# Altium footprint library Con CardEdge.PcbLib: 10 footprints
Each footprint in its own frame and in the unit in brackets; x right, y up, seen from the top. Pads: shape width x height; smd on the part's side, far side on the other; paste and mask are expansions set on the pad; w line width, h text height; cw(c..) or ccw(c..) is an arc to the next point about the centre after c.
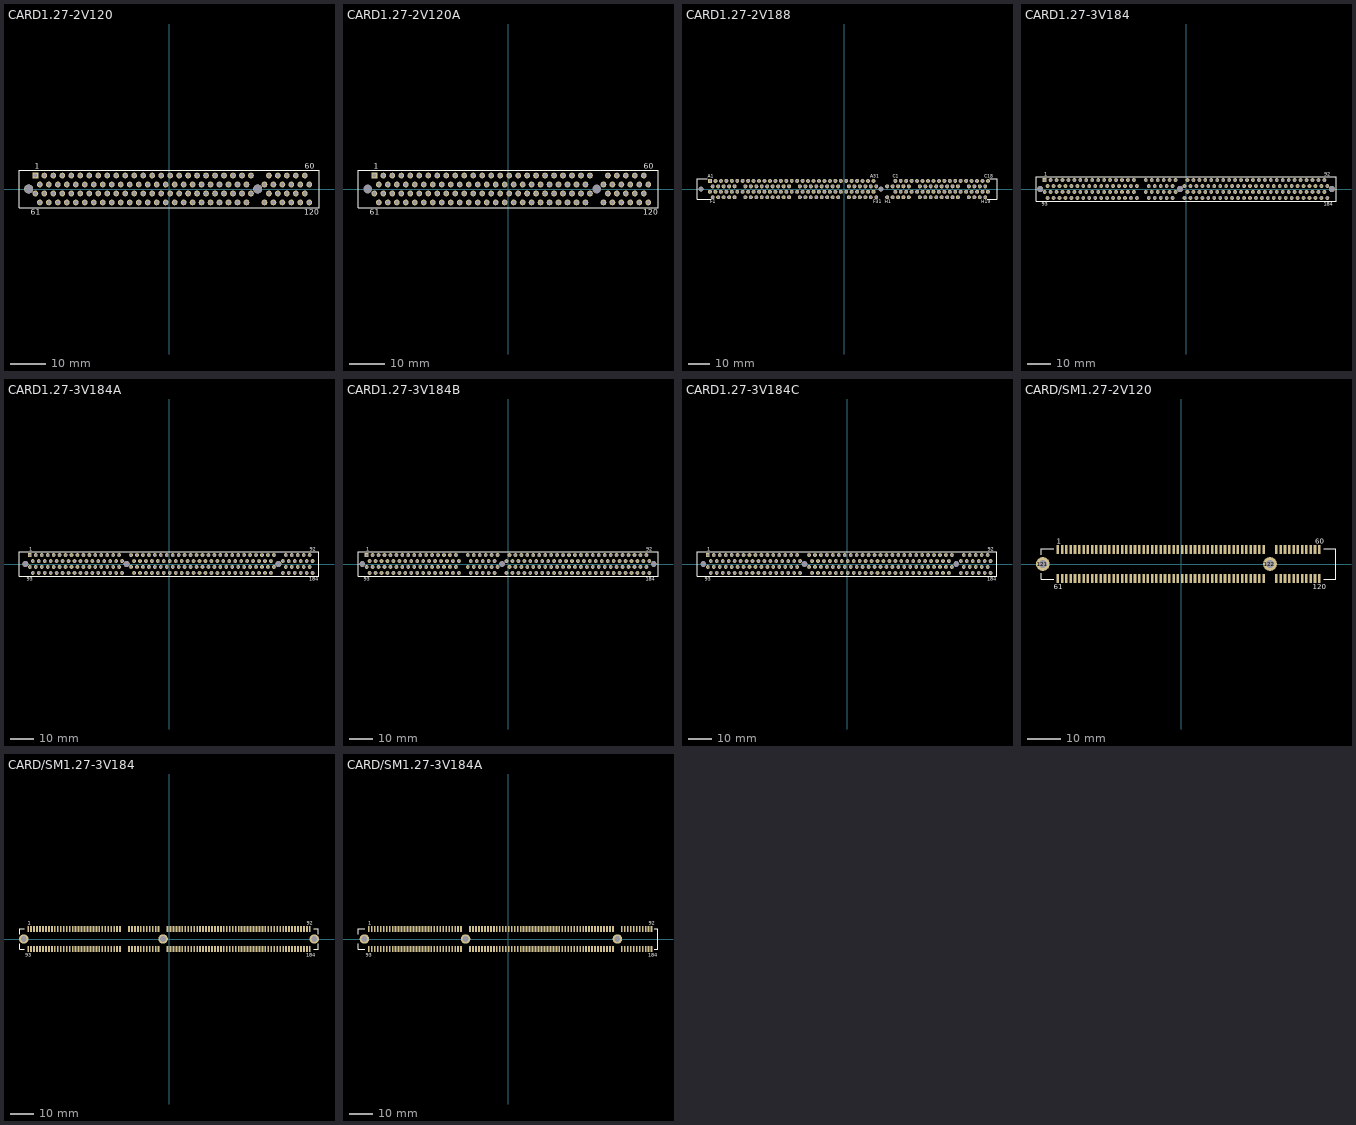
[diagram p0: the footprints below, top view; thin cyan lines are the x and y axes]

## CARD1.27-2V120 [mm] "Connector; Card Edge .050 Series PCI; 2x60 Position; 32-Bit Bus"
height 15.74
pads (122):
  rect 1.62x1.62 hole 1.02: 1(-37.782,3.81)
  round 1.62 hole 1.02: 2(-36.512,1.27) 3(-35.242,3.81) 4(-33.972,1.27) 5(-32.703,3.81) 6(-31.432,1.27) 7(-30.162,3.81) 8(-28.892,1.27) 9(-27.622,3.81) 10(-26.352,1.27) 11(-25.082,3.81) 12(-23.812,1.27) 13(-22.543,3.81) 14(-21.273,1.27) 15(-20.002,3.81) 16(-18.732,1.27) 17(-17.462,3.81) 18(-16.192,1.27) 19(-14.922,3.81) 20(-13.652,1.27) 21(-12.383,3.81) 22(-11.112,1.27) 23(-9.842,3.81) 24(-8.572,1.27) 25(-7.302,3.81) 26(-6.032,1.27) 27(-4.763,3.81) 28(-3.492,1.27) 29(-2.222,3.81) 30(-0.953,1.27) 31(0.318,3.81) 32(1.587,1.27) 33(2.857,3.81) 34(4.127,1.27) 35(5.397,3.81) 36(6.667,1.27) 37(7.938,3.81) 38(9.207,1.27) 39(10.477,3.81) 40(11.747,1.27) 41(13.018,3.81) 42(14.287,1.27) 43(15.557,3.81) 44(16.828,1.27) 45(18.098,3.81) 46(19.367,1.27) 47(20.637,3.81) 48(21.907,1.27) 49(23.177,3.81) 50(26.987,1.27) 51(28.258,3.81) 52(29.527,1.27) 53(30.797,3.81) 54(32.067,1.27) 55(33.337,3.81) 56(34.608,1.27) 57(35.877,3.81) 58(37.148,1.27) 59(38.417,3.81) 60(39.688,1.27) 61(-37.782,-1.27) 62(-36.512,-3.81) 63(-35.242,-1.27) 64(-33.972,-3.81) 65(-32.703,-1.27) 66(-31.432,-3.81) 67(-30.162,-1.27) 68(-28.892,-3.81) 69(-27.622,-1.27) 70(-26.352,-3.81) 71(-25.082,-1.27) 72(-23.812,-3.81) 73(-22.543,-1.27) 74(-21.273,-3.81) 75(-20.002,-1.27) 76(-18.732,-3.81) 77(-17.462,-1.27) 78(-16.192,-3.81) 79(-14.922,-1.27) 80(-13.652,-3.81) 81(-12.383,-1.27) 82(-11.112,-3.81) 83(-9.842,-1.27) 84(-8.572,-3.81) 85(-7.302,-1.27) 86(-6.032,-3.81) 87(-4.763,-1.27) 88(-3.492,-3.81) 89(-2.222,-1.27) 90(-0.953,-3.81) 91(0.318,-1.27) 92(1.587,-3.81) 93(2.857,-1.27) 94(4.127,-3.81) 95(5.397,-1.27) 96(6.667,-3.81) 97(7.938,-1.27) 98(9.207,-3.81) 99(10.477,-1.27) 100(11.747,-3.81) 101(13.018,-1.27) 102(14.287,-3.81) 103(15.557,-1.27) 104(16.828,-3.81) 105(18.098,-1.27) 106(19.367,-3.81) 107(20.637,-1.27) 108(21.907,-3.81) 109(23.177,-1.27) 110(26.987,-3.81) 111(28.258,-1.27) 112(29.527,-3.81) 113(30.797,-1.27) 114(32.067,-3.81) 115(33.337,-1.27) 116(34.608,-3.81) 117(35.877,-1.27) 118(37.148,-3.81) 119(38.417,-1.27) 120(39.688,-3.81)
  round 2.55 hole 2.44: 121(-39.688,0) 122(25.082,0)
Top Overlay:
  lines w0.2: -42.42,-5.26 42.42,-5.26 42.42,5.26 -42.42,5.26 -42.42,-5.26
  text "120" at 38.188,-7.235 h1.5
  text "60" at 38.437,5.735 h1.5
  text "1" at -38.032,5.735 h1.5
  text "61" at -39.033,-7.235 h1.5

## CARD1.27-2V120A [mm] "Connector; Card Edge .050 Series PCI; 2x60 Position; 32-Bit Bus"
height 15.48
pads (122):
  rect 1.62x1.62 hole 1.02: 1(-37.782,3.81)
  round 1.62 hole 1.02: 2(-36.512,1.27) 3(-35.242,3.81) 4(-33.972,1.27) 5(-32.703,3.81) 6(-31.432,1.27) 7(-30.162,3.81) 8(-28.892,1.27) 9(-27.622,3.81) 10(-26.352,1.27) 11(-25.082,3.81) 12(-23.812,1.27) 13(-22.543,3.81) 14(-21.273,1.27) 15(-20.002,3.81) 16(-18.732,1.27) 17(-17.462,3.81) 18(-16.192,1.27) 19(-14.922,3.81) 20(-13.652,1.27) 21(-12.383,3.81) 22(-11.112,1.27) 23(-9.842,3.81) 24(-8.572,1.27) 25(-7.302,3.81) 26(-6.032,1.27) 27(-4.763,3.81) 28(-3.492,1.27) 29(-2.222,3.81) 30(-0.953,1.27) 31(0.318,3.81) 32(1.587,1.27) 33(2.857,3.81) 34(4.127,1.27) 35(5.397,3.81) 36(6.667,1.27) 37(7.938,3.81) 38(9.207,1.27) 39(10.477,3.81) 40(11.747,1.27) 41(13.018,3.81) 42(14.287,1.27) 43(15.557,3.81) 44(16.828,1.27) 45(18.098,3.81) 46(19.367,1.27) 47(20.637,3.81) 48(21.907,1.27) 49(23.177,3.81) 50(26.987,1.27) 51(28.258,3.81) 52(29.527,1.27) 53(30.797,3.81) 54(32.067,1.27) 55(33.337,3.81) 56(34.608,1.27) 57(35.877,3.81) 58(37.148,1.27) 59(38.417,3.81) 60(39.688,1.27) 61(-37.782,-1.27) 62(-36.512,-3.81) 63(-35.242,-1.27) 64(-33.972,-3.81) 65(-32.703,-1.27) 66(-31.432,-3.81) 67(-30.162,-1.27) 68(-28.892,-3.81) 69(-27.622,-1.27) 70(-26.352,-3.81) 71(-25.082,-1.27) 72(-23.812,-3.81) 73(-22.543,-1.27) 74(-21.273,-3.81) 75(-20.002,-1.27) 76(-18.732,-3.81) 77(-17.462,-1.27) 78(-16.192,-3.81) 79(-14.922,-1.27) 80(-13.652,-3.81) 81(-12.383,-1.27) 82(-11.112,-3.81) 83(-9.842,-1.27) 84(-8.572,-3.81) 85(-7.302,-1.27) 86(-6.032,-3.81) 87(-4.763,-1.27) 88(-3.492,-3.81) 89(-2.222,-1.27) 90(-0.953,-3.81) 91(0.318,-1.27) 92(1.587,-3.81) 93(2.857,-1.27) 94(4.127,-3.81) 95(5.397,-1.27) 96(6.667,-3.81) 97(7.938,-1.27) 98(9.207,-3.81) 99(10.477,-1.27) 100(11.747,-3.81) 101(13.018,-1.27) 102(14.287,-3.81) 103(15.557,-1.27) 104(16.828,-3.81) 105(18.098,-1.27) 106(19.367,-3.81) 107(20.637,-1.27) 108(21.907,-3.81) 109(23.177,-1.27) 110(26.987,-3.81) 111(28.258,-1.27) 112(29.527,-3.81) 113(30.797,-1.27) 114(32.067,-3.81) 115(33.337,-1.27) 116(34.608,-3.81) 117(35.877,-1.27) 118(37.148,-3.81) 119(38.417,-1.27) 120(39.688,-3.81)
  round 2.14 hole 2.44: 121(-39.688,0) 122(25.082,0)
Top Overlay:
  lines w0.2: -42.42,-5.26 -42.42,5.26 42.42,5.26 42.42,-5.26 -42.42,-5.26
  text "61" at -39.033,-7.235 h1.5
  text "1" at -38.032,5.735 h1.5
  text "60" at 38.437,5.735 h1.5
  text "120" at 38.188,-7.235 h1.5

## CARD1.27-2V188 [mm] "Connector; EISA, Thru-Hole; 188 Position; Vertical; Pitch 1.27 mm"
height 15.49
pads (190):
  rect 1.85x1.85 hole 1.1: A1(-62.685,3.81)
  round 1.85 hole 1.1: A2(-60.145,3.81) A3(-57.605,3.81) A4(-55.065,3.81) A5(-52.525,3.81) A6(-49.985,3.81) A7(-47.445,3.81) A8(-44.905,3.81) A9(-42.365,3.81) A10(-39.825,3.81) A11(-37.285,3.81) A12(-34.745,3.81) A13(-32.205,3.81) A14(-29.665,3.81) A15(-27.125,3.81) A16(-24.585,3.81) A17(-22.045,3.81) A18(-19.505,3.81) A19(-16.965,3.81) A20(-14.425,3.81) A21(-11.885,3.81) A22(-9.345,3.81) A23(-6.805,3.81) A24(-4.265,3.81) A25(-1.725,3.81) A26(0.815,3.81) A27(3.355,3.81) A28(5.895,3.81) A29(8.435,3.81) A30(10.975,3.81) A31(13.515,3.81) B1(-62.685,-1.27) B2(-60.145,-1.27) B3(-57.605,-1.27) B4(-55.065,-1.27) B5(-52.525,-1.27) B6(-49.985,-1.27) B7(-47.445,-1.27) B8(-44.905,-1.27) B9(-42.365,-1.27) B10(-39.825,-1.27) B11(-37.285,-1.27) B12(-34.745,-1.27) B13(-32.205,-1.27) B14(-29.665,-1.27) B15(-27.125,-1.27) B16(-24.585,-1.27) B17(-22.045,-1.27) B18(-19.505,-1.27) B19(-16.965,-1.27) B20(-14.425,-1.27) B21(-11.885,-1.27) B22(-9.345,-1.27) B23(-6.805,-1.27) B24(-4.265,-1.27) B25(-1.725,-1.27) B26(0.815,-1.27) B27(3.355,-1.27) B28(5.895,-1.27) B29(8.435,-1.27) B30(10.975,-1.27) B31(13.515,-1.27) C1(23.675,3.81) C2(26.215,3.81) C3(28.755,3.81) C4(31.295,3.81) C5(33.835,3.81) C6(36.375,3.81) C7(38.915,3.81) C8(41.455,3.81) C9(43.995,3.81) C10(46.535,3.81) C11(49.075,3.81) C12(51.615,3.81) C13(54.155,3.81) C14(56.695,3.81) C15(59.235,3.81) C16(61.775,3.81) C17(64.315,3.81) C18(66.855,3.81) D1(23.675,-1.27) D2(26.215,-1.27) D3(28.755,-1.27) D4(31.295,-1.27) D5(33.835,-1.27) D6(36.375,-1.27) D7(38.915,-1.27) D8(41.455,-1.27) D9(43.995,-1.27) D10(46.535,-1.27) D11(49.075,-1.27) D12(51.615,-1.27) D13(54.155,-1.27) D14(56.695,-1.27) D15(59.235,-1.27) D16(61.775,-1.27) D17(64.315,-1.27) D18(66.855,-1.27) E1(-61.415,1.27) E2(-58.875,1.27) E3(-56.335,1.27) E4(-53.795,1.27) E5(-51.255,1.27) E7(-46.175,1.27) E8(-43.635,1.27) E9(-41.095,1.27) E10(-38.555,1.27) E11(-36.015,1.27) E12(-33.475,1.27) E13(-30.935,1.27) E14(-28.395,1.27) E15(-25.855,1.27) E17(-20.775,1.27) E18(-18.235,1.27) E19(-15.695,1.27) E20(-13.155,1.27) E21(-10.615,1.27) E22(-8.075,1.27) E23(-5.535,1.27) E24(-2.995,1.27) E26(2.085,1.27) E27(4.625,1.27) E28(7.165,1.27) E29(9.705,1.27) E30(12.245,1.27) E31(14.785,1.27) F1(-61.415,-3.81) F2(-58.875,-3.81) F3(-56.335,-3.81) F4(-53.795,-3.81) F5(-51.255,-3.81) F7(-46.175,-3.81) F8(-43.635,-3.81) F9(-41.095,-3.81) F10(-38.555,-3.81) F11(-36.015,-3.81) F12(-33.475,-3.81) F13(-30.935,-3.81) F14(-28.395,-3.81) F15(-25.855,-3.81) F17(-20.775,-3.81) F18(-18.235,-3.81) F19(-15.695,-3.81) F20(-13.155,-3.81) F21(-10.615,-3.81) F22(-8.075,-3.81) F23(-5.535,-3.81) F24(-2.995,-3.81) F26(2.085,-3.81) F27(4.625,-3.81) F28(7.165,-3.81) F29(9.705,-3.81) F30(12.245,-3.81) F31(14.785,-3.81) G1(19.865,1.27) G2(22.405,1.27) G3(24.945,1.27) G4(27.485,1.27) G5(30.025,1.27) G7(35.105,1.27) G8(37.645,1.27) G9(40.185,1.27) G10(42.725,1.27) G11(45.265,1.27) G12(47.805,1.27) G13(50.345,1.27) G14(52.885,1.27) G16(57.965,1.27) G17(60.505,1.27) G18(63.045,1.27) G19(65.585,1.27) H1(19.865,-3.81) H2(22.405,-3.81) H3(24.945,-3.81) H4(27.485,-3.81) H5(30.025,-3.81) H7(35.105,-3.81) H8(37.645,-3.81) H9(40.185,-3.81) H10(42.725,-3.81) H11(45.265,-3.81) H12(47.805,-3.81) H13(50.345,-3.81) H14(52.885,-3.81) H16(57.965,-3.81) H17(60.505,-3.81) H18(63.045,-3.81) H19(65.585,-3.81)
  round 2.14 hole 2.45: MH1(-66.855,0) MH2(16.965,0)
Top Overlay:
  lines w0.2: -64.06,4.76 -68.735,4.76 -68.735,-4.76 -62.345,-4.76 ; 66.515,-4.76 71.065,-4.76 71.065,4.76 67.785,4.76
  text "A1" at -63.785,5.26 h1.5
  text "A31" at 12.015,5.26 h1.5
  text "F31" at 13.285,-6.71 h1.5
  text "F1" at -62.515,-6.71 h1.5
  text "H1" at 18.765,-6.71 h1.5
  text "C1" at 22.575,5.26 h1.5
  text "H19" at 63.835,-6.71 h1.5
  text "C18" at 65.105,5.26 h1.5

## CARD1.27-3V184 [mm] "Connector; Card Edge .050 Series PCI; 2x92 Position; 64-Bit Bus"
height 15.74
pads (187):
  rect 1.62x1.62 hole 1.02: 1(-60.325,3.81)
  round 1.62 hole 1.02: 2(-59.055,1.27) 3(-57.785,3.81) 4(-56.515,1.27) 5(-55.245,3.81) 6(-53.975,1.27) 7(-52.705,3.81) 8(-51.435,1.27) 9(-50.165,3.81) 10(-48.895,1.27) 11(-47.625,3.81) 12(-46.355,1.27) 13(-45.085,3.81) 14(-43.815,1.27) 15(-42.545,3.81) 16(-41.275,1.27) 17(-40.005,3.81) 18(-38.735,1.27) 19(-37.465,3.81) 20(-36.195,1.27) 21(-34.925,3.81) 22(-33.655,1.27) 23(-32.385,3.81) 24(-31.115,1.27) 25(-29.845,3.81) 26(-28.575,1.27) 27(-27.305,3.81) 28(-26.035,1.27) 29(-24.765,3.81) 30(-23.495,1.27) 31(-22.225,3.81) 32(-20.955,1.27) 33(-17.145,3.81) 34(-15.875,1.27) 35(-14.605,3.81) 36(-13.335,1.27) 37(-12.065,3.81) 38(-10.795,1.27) 39(-9.525,3.81) 40(-8.255,1.27) 41(-6.985,3.81) 42(-5.715,1.27) 43(-4.445,3.81) 44(-0.635,1.27) 45(0.635,3.81) 46(1.905,1.27) 47(3.175,3.81) 48(4.445,1.27) 49(5.715,3.81) 50(6.985,1.27) 51(8.255,3.81) 52(9.525,1.27) 53(10.795,3.81) 54(12.065,1.27) 55(13.335,3.81) 56(14.605,1.27) 57(15.875,3.81) 58(17.145,1.27) 59(18.415,3.81) 60(19.685,1.27) 61(20.955,3.81) 62(22.225,1.27) 63(23.495,3.81) 64(24.765,1.27) 65(26.035,3.81) 66(27.305,1.27) 67(28.575,3.81) 68(29.845,1.27) 69(31.115,3.81) 70(32.385,1.27) 71(33.655,3.81) 72(34.925,1.27) 73(36.195,3.81) 74(37.465,1.27) 75(38.735,3.81) 76(40.005,1.27) 77(41.275,3.81) 78(42.545,1.27) 79(43.815,3.81) 80(45.085,1.27) 81(46.355,3.81) 82(47.625,1.27) 83(48.895,3.81) 84(50.165,1.27) 85(51.435,3.81) 86(52.705,1.27) 87(53.975,3.81) 88(55.245,1.27) 89(56.515,3.81) 90(57.785,1.27) 91(59.055,3.81) 92(60.325,1.27) 93(-60.325,-1.27) 94(-59.055,-3.81) 95(-57.785,-1.27) 96(-56.515,-3.81) 97(-55.245,-1.27) 98(-53.975,-3.81) 99(-52.705,-1.27) 100(-51.435,-3.81) 101(-50.165,-1.27) 102(-48.895,-3.81) 103(-47.625,-1.27) 104(-46.355,-3.81) 105(-45.085,-1.27) 106(-43.815,-3.81) 107(-42.545,-1.27) 108(-41.275,-3.81) 109(-40.005,-1.27) 110(-38.735,-3.81) 111(-37.465,-1.27) 112(-36.195,-3.81) 113(-34.925,-1.27) 114(-33.655,-3.81) 115(-32.385,-1.27) 116(-31.115,-3.81) 117(-29.845,-1.27) 118(-28.575,-3.81) 119(-27.305,-1.27) 120(-26.035,-3.81) 121(-24.765,-1.27) 122(-23.495,-3.81) 123(-22.225,-1.27) 124(-20.955,-3.81) 125(-17.145,-1.27) 126(-15.875,-3.81) 127(-14.605,-1.27) 128(-13.335,-3.81) 129(-12.065,-1.27) 130(-10.795,-3.81) 131(-9.525,-1.27) 132(-8.255,-3.81) 133(-6.985,-1.27) 134(-5.715,-3.81) 135(-4.445,-1.27) 136(-0.635,-3.81) 137(0.635,-1.27) 138(1.905,-3.81) 139(3.175,-1.27) 140(4.445,-3.81) 141(5.715,-1.27) 142(6.985,-3.81) 143(8.255,-1.27) 144(9.525,-3.81) 145(10.795,-1.27) 146(12.065,-3.81) 147(13.335,-1.27) 148(14.605,-3.81) 149(15.875,-1.27) 150(17.145,-3.81) 151(18.415,-1.27) 152(19.685,-3.81) 153(20.955,-1.27) 154(22.225,-3.81) 155(23.495,-1.27) 156(24.765,-3.81) 157(26.035,-1.27) 158(27.305,-3.81) 159(28.575,-1.27) 160(29.845,-3.81) 161(31.115,-1.27) 162(32.385,-3.81) 163(33.655,-1.27) 164(34.925,-3.81) 165(36.195,-1.27) 166(37.465,-3.81) 167(38.735,-1.27) 168(40.005,-3.81) 169(41.275,-1.27) 170(42.545,-3.81) 171(43.815,-1.27) 172(45.085,-3.81) 173(46.355,-1.27) 174(47.625,-3.81) 175(48.895,-1.27) 176(50.165,-3.81) 177(51.435,-1.27) 178(52.705,-3.81) 179(53.975,-1.27) 180(55.245,-3.81) 181(56.515,-1.27) 182(57.785,-3.81) 183(59.055,-1.27) 184(60.325,-3.81)
  round 2.56 hole 2.44: 185(-62.23,0) 186(-2.54,0) 187(62.23,0)
Top Overlay:
  lines w0.2: -64.01,-5.26 -64.01,5.26 64.01,5.26 64.01,-5.26 -64.01,-5.26
  text "1" at -60.575,5.735 h1.5
  text "93" at -61.575,-7.235 h1.5
  text "184" at 58.825,-7.235 h1.5
  text "92" at 59.075,5.735 h1.5

## CARD1.27-3V184A [mm] "Connector; Card Edge .050 Series PCI; 2x92 Position; 64-Bit Bus"
height 15.74
pads (187):
  rect 1.62x1.62 hole 1.02: 1(-59.372,3.81)
  round 1.62 hole 1.02: 2(-58.102,1.27) 3(-56.832,3.81) 4(-55.562,1.27) 5(-54.292,3.81) 6(-53.023,1.27) 7(-51.752,3.81) 8(-50.482,1.27) 9(-49.212,3.81) 10(-47.942,1.27) 11(-46.672,3.81) 12(-45.402,1.27) 13(-44.133,3.81) 14(-42.862,1.27) 15(-41.593,3.81) 16(-40.322,1.27) 17(-39.052,3.81) 18(-37.782,1.27) 19(-36.512,3.81) 20(-35.242,1.27) 21(-33.972,3.81) 22(-32.703,1.27) 23(-31.432,3.81) 24(-30.162,1.27) 25(-28.892,3.81) 26(-27.622,1.27) 27(-26.352,3.81) 28(-25.082,1.27) 29(-23.812,3.81) 30(-22.543,1.27) 31(-21.273,3.81) 32(-20.002,1.27) 33(-16.192,3.81) 34(-14.922,1.27) 35(-13.652,3.81) 36(-12.383,1.27) 37(-11.112,3.81) 38(-9.842,1.27) 39(-8.572,3.81) 40(-7.302,1.27) 41(-6.032,3.81) 42(-4.763,1.27) 43(-3.492,3.81) 44(-2.222,1.27) 45(-0.953,3.81) 46(0.318,1.27) 47(1.587,3.81) 48(2.857,1.27) 49(4.127,3.81) 50(5.397,1.27) 51(6.667,3.81) 52(7.938,1.27) 53(9.207,3.81) 54(10.477,1.27) 55(11.747,3.81) 56(13.018,1.27) 57(14.287,3.81) 58(15.557,1.27) 59(16.828,3.81) 60(18.098,1.27) 61(19.367,3.81) 62(20.637,1.27) 63(21.907,3.81) 64(23.177,1.27) 65(24.447,3.81) 66(25.717,1.27) 67(26.987,3.81) 68(28.258,1.27) 69(29.527,3.81) 70(30.797,1.27) 71(32.067,3.81) 72(33.337,1.27) 73(34.608,3.81) 74(35.877,1.27) 75(37.148,3.81) 76(38.417,1.27) 77(39.688,3.81) 78(40.957,1.27) 79(42.227,3.81) 80(43.497,1.27) 81(44.767,3.81) 82(48.578,1.27) 83(49.847,3.81) 84(51.117,1.27) 85(52.387,3.81) 86(53.657,1.27) 87(54.927,3.81) 88(56.197,1.27) 89(57.468,3.81) 90(58.737,1.27) 91(60.008,3.81) 92(61.277,1.27) 93(-59.372,-1.27) 94(-58.102,-3.81) 95(-56.832,-1.27) 96(-55.562,-3.81) 97(-54.292,-1.27) 98(-53.023,-3.81) 99(-51.752,-1.27) 100(-50.482,-3.81) 101(-49.212,-1.27) 102(-47.942,-3.81) 103(-46.672,-1.27) 104(-45.402,-3.81) 105(-44.133,-1.27) 106(-42.862,-3.81) 107(-41.593,-1.27) 108(-40.322,-3.81) 109(-39.052,-1.27) 110(-37.782,-3.81) 111(-36.512,-1.27) 112(-35.242,-3.81) 113(-33.972,-1.27) 114(-32.703,-3.81) 115(-31.432,-1.27) 116(-30.162,-3.81) 117(-28.892,-1.27) 118(-27.622,-3.81) 119(-26.352,-1.27) 120(-25.082,-3.81) 121(-23.812,-1.27) 122(-22.543,-3.81) 123(-21.273,-1.27) 124(-20.002,-3.81) 125(-16.192,-1.27) 126(-14.922,-3.81) 127(-13.652,-1.27) 128(-12.383,-3.81) 129(-11.112,-1.27) 130(-9.842,-3.81) 131(-8.572,-1.27) 132(-7.302,-3.81) 133(-6.032,-1.27) 134(-4.763,-3.81) 135(-3.492,-1.27) 136(-2.222,-3.81) 137(-0.953,-1.27) 138(0.318,-3.81) 139(1.587,-1.27) 140(2.857,-3.81) 141(4.127,-1.27) 142(5.397,-3.81) 143(6.667,-1.27) 144(7.938,-3.81) 145(9.207,-1.27) 146(10.477,-3.81) 147(11.747,-1.27) 148(13.018,-3.81) 149(14.287,-1.27) 150(15.557,-3.81) 151(16.828,-1.27) 152(18.098,-3.81) 153(19.367,-1.27) 154(20.637,-3.81) 155(21.907,-1.27) 156(23.177,-3.81) 157(24.447,-1.27) 158(25.717,-3.81) 159(26.987,-1.27) 160(28.258,-3.81) 161(29.527,-1.27) 162(30.797,-3.81) 163(32.067,-1.27) 164(33.337,-3.81) 165(34.608,-1.27) 166(35.877,-3.81) 167(37.148,-1.27) 168(38.417,-3.81) 169(39.688,-1.27) 170(40.957,-3.81) 171(42.227,-1.27) 172(43.497,-3.81) 173(44.767,-1.27) 174(48.578,-3.81) 175(49.847,-1.27) 176(51.117,-3.81) 177(52.387,-1.27) 178(53.657,-3.81) 179(54.927,-1.27) 180(56.197,-3.81) 181(57.468,-1.27) 182(58.737,-3.81) 183(60.008,-1.27) 184(61.277,-3.81)
  round 2.56 hole 2.44: 185(-61.277,0) 186(-18.098,0) 187(46.672,0)
Top Overlay:
  lines w0.2: -64,-5.26 -64,5.26 64,5.26 64,-5.26 -64,-5.26
  text "92" at 60.027,5.735 h1.5
  text "184" at 59.778,-7.235 h1.5
  text "93" at -60.623,-7.235 h1.5
  text "1" at -59.622,5.735 h1.5

## CARD1.27-3V184B [mm] "Connector; Card Edge .050 Series PCI; 2x92 Position; 64-Bit Bus"
height 15.74
pads (187):
  rect 1.62x1.62 hole 1.02: 1(-60.325,3.81)
  round 1.62 hole 1.02: 2(-59.055,1.27) 3(-57.785,3.81) 4(-56.515,1.27) 5(-55.245,3.81) 6(-53.975,1.27) 7(-52.705,3.81) 8(-51.435,1.27) 9(-50.165,3.81) 10(-48.895,1.27) 11(-47.625,3.81) 12(-46.355,1.27) 13(-45.085,3.81) 14(-43.815,1.27) 15(-42.545,3.81) 16(-41.275,1.27) 17(-40.005,3.81) 18(-38.735,1.27) 19(-37.465,3.81) 20(-36.195,1.27) 21(-34.925,3.81) 22(-33.655,1.27) 23(-32.385,3.81) 24(-31.115,1.27) 25(-29.845,3.81) 26(-28.575,1.27) 27(-27.305,3.81) 28(-26.035,1.27) 29(-24.765,3.81) 30(-23.495,1.27) 31(-22.225,3.81) 32(-20.955,1.27) 33(-17.145,3.81) 34(-15.875,1.27) 35(-14.605,3.81) 36(-13.335,1.27) 37(-12.065,3.81) 38(-10.795,1.27) 39(-9.525,3.81) 40(-8.255,1.27) 41(-6.985,3.81) 42(-5.715,1.27) 43(-4.445,3.81) 44(-0.635,1.27) 45(0.635,3.81) 46(1.905,1.27) 47(3.175,3.81) 48(4.445,1.27) 49(5.715,3.81) 50(6.985,1.27) 51(8.255,3.81) 52(9.525,1.27) 53(10.795,3.81) 54(12.065,1.27) 55(13.335,3.81) 56(14.605,1.27) 57(15.875,3.81) 58(17.145,1.27) 59(18.415,3.81) 60(19.685,1.27) 61(20.955,3.81) 62(22.225,1.27) 63(23.495,3.81) 64(24.765,1.27) 65(26.035,3.81) 66(27.305,1.27) 67(28.575,3.81) 68(29.845,1.27) 69(31.115,3.81) 70(32.385,1.27) 71(33.655,3.81) 72(34.925,1.27) 73(36.195,3.81) 74(37.465,1.27) 75(38.735,3.81) 76(40.005,1.27) 77(41.275,3.81) 78(42.545,1.27) 79(43.815,3.81) 80(45.085,1.27) 81(46.355,3.81) 82(47.625,1.27) 83(48.895,3.81) 84(50.165,1.27) 85(51.435,3.81) 86(52.705,1.27) 87(53.975,3.81) 88(55.245,1.27) 89(56.515,3.81) 90(57.785,1.27) 91(59.055,3.81) 92(60.325,1.27) 93(-60.325,-1.27) 94(-59.055,-3.81) 95(-57.785,-1.27) 96(-56.515,-3.81) 97(-55.245,-1.27) 98(-53.975,-3.81) 99(-52.705,-1.27) 100(-51.435,-3.81) 101(-50.165,-1.27) 102(-48.895,-3.81) 103(-47.625,-1.27) 104(-46.355,-3.81) 105(-45.085,-1.27) 106(-43.815,-3.81) 107(-42.545,-1.27) 108(-41.275,-3.81) 109(-40.005,-1.27) 110(-38.735,-3.81) 111(-37.465,-1.27) 112(-36.195,-3.81) 113(-34.925,-1.27) 114(-33.655,-3.81) 115(-32.385,-1.27) 116(-31.115,-3.81) 117(-29.845,-1.27) 118(-28.575,-3.81) 119(-27.305,-1.27) 120(-26.035,-3.81) 121(-24.765,-1.27) 122(-23.495,-3.81) 123(-22.225,-1.27) 124(-20.955,-3.81) 125(-17.145,-1.27) 126(-15.875,-3.81) 127(-14.605,-1.27) 128(-13.335,-3.81) 129(-12.065,-1.27) 130(-10.795,-3.81) 131(-9.525,-1.27) 132(-8.255,-3.81) 133(-6.985,-1.27) 134(-5.715,-3.81) 135(-4.445,-1.27) 136(-0.635,-3.81) 137(0.635,-1.27) 138(1.905,-3.81) 139(3.175,-1.27) 140(4.445,-3.81) 141(5.715,-1.27) 142(6.985,-3.81) 143(8.255,-1.27) 144(9.525,-3.81) 145(10.795,-1.27) 146(12.065,-3.81) 147(13.335,-1.27) 148(14.605,-3.81) 149(15.875,-1.27) 150(17.145,-3.81) 151(18.415,-1.27) 152(19.685,-3.81) 153(20.955,-1.27) 154(22.225,-3.81) 155(23.495,-1.27) 156(24.765,-3.81) 157(26.035,-1.27) 158(27.305,-3.81) 159(28.575,-1.27) 160(29.845,-3.81) 161(31.115,-1.27) 162(32.385,-3.81) 163(33.655,-1.27) 164(34.925,-3.81) 165(36.195,-1.27) 166(37.465,-3.81) 167(38.735,-1.27) 168(40.005,-3.81) 169(41.275,-1.27) 170(42.545,-3.81) 171(43.815,-1.27) 172(45.085,-3.81) 173(46.355,-1.27) 174(47.625,-3.81) 175(48.895,-1.27) 176(50.165,-3.81) 177(51.435,-1.27) 178(52.705,-3.81) 179(53.975,-1.27) 180(55.245,-3.81) 181(56.515,-1.27) 182(57.785,-3.81) 183(59.055,-1.27) 184(60.325,-3.81)
  round 2.14 hole 2.44: 185(-62.23,0) 186(-2.54,0) 187(62.23,0)
Top Overlay:
  lines w0.2: -64.01,-5.26 64.01,-5.26 64.01,5.26 -64.01,5.26 -64.01,-5.26
  text "92" at 59.075,5.735 h1.5
  text "184" at 58.825,-7.235 h1.5
  text "93" at -61.575,-7.235 h1.5
  text "1" at -60.575,5.735 h1.5

## CARD1.27-3V184C [mm] "Connector; Card Edge .050 Series PCI; 2x92 Position; 64-Bit Bus"
height 15.74
pads (187):
  rect 1.62x1.62 hole 1.02: 1(-59.372,3.81)
  round 1.62 hole 1.02: 2(-58.102,1.27) 3(-56.832,3.81) 4(-55.562,1.27) 5(-54.292,3.81) 6(-53.023,1.27) 7(-51.752,3.81) 8(-50.482,1.27) 9(-49.212,3.81) 10(-47.942,1.27) 11(-46.672,3.81) 12(-45.402,1.27) 13(-44.133,3.81) 14(-42.862,1.27) 15(-41.593,3.81) 16(-40.322,1.27) 17(-39.052,3.81) 18(-37.782,1.27) 19(-36.512,3.81) 20(-35.242,1.27) 21(-33.972,3.81) 22(-32.703,1.27) 23(-31.432,3.81) 24(-30.162,1.27) 25(-28.892,3.81) 26(-27.622,1.27) 27(-26.352,3.81) 28(-25.082,1.27) 29(-23.812,3.81) 30(-22.543,1.27) 31(-21.273,3.81) 32(-20.002,1.27) 33(-16.192,3.81) 34(-14.922,1.27) 35(-13.652,3.81) 36(-12.383,1.27) 37(-11.112,3.81) 38(-9.842,1.27) 39(-8.572,3.81) 40(-7.302,1.27) 41(-6.032,3.81) 42(-4.763,1.27) 43(-3.492,3.81) 44(-2.222,1.27) 45(-0.953,3.81) 46(0.318,1.27) 47(1.587,3.81) 48(2.857,1.27) 49(4.127,3.81) 50(5.397,1.27) 51(6.667,3.81) 52(7.938,1.27) 53(9.207,3.81) 54(10.477,1.27) 55(11.747,3.81) 56(13.018,1.27) 57(14.287,3.81) 58(15.557,1.27) 59(16.828,3.81) 60(18.098,1.27) 61(19.367,3.81) 62(20.637,1.27) 63(21.907,3.81) 64(23.177,1.27) 65(24.447,3.81) 66(25.717,1.27) 67(26.987,3.81) 68(28.258,1.27) 69(29.527,3.81) 70(30.797,1.27) 71(32.067,3.81) 72(33.337,1.27) 73(34.608,3.81) 74(35.877,1.27) 75(37.148,3.81) 76(38.417,1.27) 77(39.688,3.81) 78(40.957,1.27) 79(42.227,3.81) 80(43.497,1.27) 81(44.767,3.81) 82(48.578,1.27) 83(49.847,3.81) 84(51.117,1.27) 85(52.387,3.81) 86(53.657,1.27) 87(54.927,3.81) 88(56.197,1.27) 89(57.468,3.81) 90(58.737,1.27) 91(60.008,3.81) 92(61.277,1.27) 93(-59.372,-1.27) 94(-58.102,-3.81) 95(-56.832,-1.27) 96(-55.562,-3.81) 97(-54.292,-1.27) 98(-53.023,-3.81) 99(-51.752,-1.27) 100(-50.482,-3.81) 101(-49.212,-1.27) 102(-47.942,-3.81) 103(-46.672,-1.27) 104(-45.402,-3.81) 105(-44.133,-1.27) 106(-42.862,-3.81) 107(-41.593,-1.27) 108(-40.322,-3.81) 109(-39.052,-1.27) 110(-37.782,-3.81) 111(-36.512,-1.27) 112(-35.242,-3.81) 113(-33.972,-1.27) 114(-32.703,-3.81) 115(-31.432,-1.27) 116(-30.162,-3.81) 117(-28.892,-1.27) 118(-27.622,-3.81) 119(-26.352,-1.27) 120(-25.082,-3.81) 121(-23.812,-1.27) 122(-22.543,-3.81) 123(-21.273,-1.27) 124(-20.002,-3.81) 125(-16.192,-1.27) 126(-14.922,-3.81) 127(-13.652,-1.27) 128(-12.383,-3.81) 129(-11.112,-1.27) 130(-9.842,-3.81) 131(-8.572,-1.27) 132(-7.302,-3.81) 133(-6.032,-1.27) 134(-4.763,-3.81) 135(-3.492,-1.27) 136(-2.222,-3.81) 137(-0.953,-1.27) 138(0.318,-3.81) 139(1.587,-1.27) 140(2.857,-3.81) 141(4.127,-1.27) 142(5.397,-3.81) 143(6.667,-1.27) 144(7.938,-3.81) 145(9.207,-1.27) 146(10.477,-3.81) 147(11.747,-1.27) 148(13.018,-3.81) 149(14.287,-1.27) 150(15.557,-3.81) 151(16.828,-1.27) 152(18.098,-3.81) 153(19.367,-1.27) 154(20.637,-3.81) 155(21.907,-1.27) 156(23.177,-3.81) 157(24.447,-1.27) 158(25.717,-3.81) 159(26.987,-1.27) 160(28.258,-3.81) 161(29.527,-1.27) 162(30.797,-3.81) 163(32.067,-1.27) 164(33.337,-3.81) 165(34.608,-1.27) 166(35.877,-3.81) 167(37.148,-1.27) 168(38.417,-3.81) 169(39.688,-1.27) 170(40.957,-3.81) 171(42.227,-1.27) 172(43.497,-3.81) 173(44.767,-1.27) 174(48.578,-3.81) 175(49.847,-1.27) 176(51.117,-3.81) 177(52.387,-1.27) 178(53.657,-3.81) 179(54.927,-1.27) 180(56.197,-3.81) 181(57.468,-1.27) 182(58.737,-3.81) 183(60.008,-1.27) 184(61.277,-3.81)
  round 2.14 hole 2.44: 185(-61.277,0) 186(-18.098,0) 187(46.672,0)
Top Overlay:
  lines w0.2: -64,-5.26 -64,5.26 64,5.26 64,-5.26 -64,-5.26
  text "92" at 60.027,5.735 h1.5
  text "184" at 59.778,-7.235 h1.5
  text "93" at -60.623,-7.235 h1.5
  text "1" at -59.622,5.735 h1.5

## CARD/SM1.27-2V120 [mil] "Connector; Card Edge .050 Series PCI; 2x60 Position; 32-Bit Bus"
height 619.68
pads (122):
  rect 30x105 smd: 1(-1437.5,170) 2(-1387.5,170) 3(-1337.5,170) 4(-1287.5,170) 5(-1237.5,170) 6(-1187.5,170) 7(-1137.5,170) 8(-1087.5,170) 9(-1037.5,170) 10(-987.5,170) 11(-937.5,170) 12(-887.5,170) 13(-837.5,170) 14(-787.5,170) 15(-737.5,170) 16(-687.5,170) 17(-637.5,170) 18(-587.5,170) 19(-537.5,170) 20(-487.5,170) 21(-437.5,170) 22(-387.5,170) 23(-337.5,170) 24(-287.5,170) 25(-237.5,170) 26(-187.5,170) 27(-137.5,170) 28(-87.5,170) 29(-37.5,170) 30(12.5,170) 31(62.5,170) 32(112.5,170) 33(162.5,170) 34(212.5,170) 35(262.5,170) 36(312.5,170) 37(362.5,170) 38(412.5,170) 39(462.5,170) 40(512.5,170) 41(562.5,170) 42(612.5,170) 43(662.5,170) 44(712.5,170) 45(762.5,170) 46(812.5,170) 47(862.5,170) 48(912.5,170) 49(962.5,170) 50(1112.5,170) 51(1162.5,170) 52(1212.5,170) 53(1262.5,170) 54(1312.5,170) 55(1362.5,170) 56(1412.5,170) 57(1462.5,170) 58(1512.5,170) 59(1562.5,170) 60(1612.5,170) 61(-1437.5,-170) 62(-1387.5,-170) 63(-1337.5,-170) 64(-1287.5,-170) 65(-1237.5,-170) 66(-1187.5,-170) 67(-1137.5,-170) 68(-1087.5,-170) 69(-1037.5,-170) 70(-987.5,-170) 71(-937.5,-170) 72(-887.5,-170) 73(-837.5,-170) 74(-787.5,-170) 75(-737.5,-170) 76(-687.5,-170) 77(-637.5,-170) 78(-587.5,-170) 79(-537.5,-170) 80(-487.5,-170) 81(-437.5,-170) 82(-387.5,-170) 83(-337.5,-170) 84(-287.5,-170) 85(-237.5,-170) 86(-187.5,-170) 87(-137.5,-170) 88(-87.5,-170) 89(-37.5,-170) 90(12.5,-170) 91(62.5,-170) 92(112.5,-170) 93(162.5,-170) 94(212.5,-170) 95(262.5,-170) 96(312.5,-170) 97(362.5,-170) 98(412.5,-170) 99(462.5,-170) 100(512.5,-170) 101(562.5,-170) 102(612.5,-170) 103(662.5,-170) 104(712.5,-170) 105(762.5,-170) 106(812.5,-170) 107(862.5,-170) 108(912.5,-170) 109(962.5,-170) 110(1112.5,-170) 111(1162.5,-170) 112(1212.5,-170) 113(1262.5,-170) 114(1312.5,-170) 115(1362.5,-170) 116(1412.5,-170) 117(1462.5,-170) 118(1512.5,-170) 119(1562.5,-170) 120(1612.5,-170)
  round 159.45 hole 96.06: 121(-1612.5,0) 122(1037.5,0)
Top Overlay:
  lines w7.87: -1632.5,-110.24 -1632.5,-175 -1487.3,-175 ; -1632.5,110.24 -1632.5,175 -1487.3,175 ; 1662.3,-175 1807.5,-175 1807.5,175 1662.3,175
  text "61" at -1486.71,-296.32 h59.06
  text "1" at -1447.34,237.26 h59.06
  text "60" at 1563.29,237.26 h59.06
  text "120" at 1538.68,-296.32 h59.06

## CARD/SM1.27-3V184 [mil] "Connector; Card Edge .050 Series PCI; 2x92 Position; 64-Bit Bus"
height 619.68
pads (187):
  rect 30x105 smd: 1(-2375,170) 2(-2325,170) 3(-2275,170) 4(-2225,170) 5(-2175,170) 6(-2125,170) 7(-2075,170) 8(-2025,170) 9(-1975,170) 10(-1925,170) 11(-1875,170) 12(-1825,170) 13(-1775,170) 14(-1725,170) 15(-1675,170) 16(-1625,170) 17(-1575,170) 18(-1525,170) 19(-1475,170) 20(-1425,170) 21(-1375,170) 22(-1325,170) 23(-1275,170) 24(-1225,170) 25(-1175,170) 26(-1125,170) 27(-1075,170) 28(-1025,170) 29(-975,170) 30(-925,170) 31(-875,170) 32(-825,170) 33(-675,170) 34(-625,170) 35(-575,170) 36(-525,170) 37(-475,170) 38(-425,170) 39(-375,170) 40(-325,170) 41(-275,170) 42(-225,170) 43(-175,170) 44(-25,170) 45(25,170) 46(75,170) 47(125,170) 48(175,170) 49(225,170) 50(275,170) 51(325,170) 52(375,170) 53(425,170) 54(475,170) 55(525,170) 56(575,170) 57(625,170) 58(675,170) 59(725,170) 60(775,170) 61(825,170) 62(875,170) 63(925,170) 64(975,170) 65(1025,170) 66(1075,170) 67(1125,170) 68(1175,170) 69(1225,170) 70(1275,170) 71(1325,170) 72(1375,170) 73(1425,170) 74(1475,170) 75(1525,170) 76(1575,170) 77(1625,170) 78(1675,170) 79(1725,170) 80(1775,170) 81(1825,170) 82(1875,170) 83(1925,170) 84(1975,170) 85(2025,170) 86(2075,170) 87(2125,170) 88(2175,170) 89(2225,170) 90(2275,170) 91(2325,170) 92(2375,170) 93(-2375,-170) 94(-2325,-170) 95(-2275,-170) 96(-2225,-170) 97(-2175,-170) 98(-2125,-170) 99(-2075,-170) 100(-2025,-170) 101(-1975,-170) 102(-1925,-170) 103(-1875,-170) 104(-1825,-170) 105(-1775,-170) 106(-1725,-170) 107(-1675,-170) 108(-1625,-170) 109(-1575,-170) 110(-1525,-170) 111(-1475,-170) 112(-1425,-170) 113(-1375,-170) 114(-1325,-170) 115(-1275,-170) 116(-1225,-170) 117(-1175,-170) 118(-1125,-170) 119(-1075,-170) 120(-1025,-170) 121(-975,-170) 122(-925,-170) 123(-875,-170) 124(-825,-170) 125(-675,-170) 126(-625,-170) 127(-575,-170) 128(-525,-170) 129(-475,-170) 130(-425,-170) 131(-375,-170) 132(-325,-170) 133(-275,-170) 134(-225,-170) 135(-175,-170) 136(-25,-170) 137(25,-170) 138(75,-170) 139(125,-170) 140(175,-170) 141(225,-170) 142(275,-170) 143(325,-170) 144(375,-170) 145(425,-170) 146(475,-170) 147(525,-170) 148(575,-170) 149(625,-170) 150(675,-170) 151(725,-170) 152(775,-170) 153(825,-170) 154(875,-170) 155(925,-170) 156(975,-170) 157(1025,-170) 158(1075,-170) 159(1125,-170) 160(1175,-170) 161(1225,-170) 162(1275,-170) 163(1325,-170) 164(1375,-170) 165(1425,-170) 166(1475,-170) 167(1525,-170) 168(1575,-170) 169(1625,-170) 170(1675,-170) 171(1725,-170) 172(1775,-170) 173(1825,-170) 174(1875,-170) 175(1925,-170) 176(1975,-170) 177(2025,-170) 178(2075,-170) 179(2125,-170) 180(2175,-170) 181(2225,-170) 182(2275,-170) 183(2325,-170) 184(2375,-170)
  round 159.45 hole 96.06: 185(-2450,0) 186(-100,0) 187(2450,0)
Top Overlay:
  lines w7.87: -2519.68,-78.74 -2519.68,-175 -2440.94,-175 ; -2519.68,78.74 -2519.68,175 -2440.94,175 ; 2440.94,-175 2519.68,-175 2519.68,-78.74 ; 2440.94,175 2519.68,175 2519.68,78.74
  text "1" at -2384.84,237.26 h59.06
  text "93" at -2424.21,-296.32 h59.06
  text "92" at 2325.79,237.26 h59.06
  text "184" at 2315.94,-296.32 h59.06

## CARD/SM1.27-3V184A [mil] "Connector; Card Edge .050 Series PCI; 2x92 Position; 64-Bit Bus"
height 619.68
pads (187):
  rect 30x105 smd: 1(-2337.5,170) 2(-2287.5,170) 3(-2237.5,170) 4(-2187.5,170) 5(-2137.5,170) 6(-2087.5,170) 7(-2037.5,170) 8(-1987.5,170) 9(-1937.5,170) 10(-1887.5,170) 11(-1837.5,170) 12(-1787.5,170) 13(-1737.5,170) 14(-1687.5,170) 15(-1637.5,170) 16(-1587.5,170) 17(-1537.5,170) 18(-1487.5,170) 19(-1437.5,170) 20(-1387.5,170) 21(-1337.5,170) 22(-1287.5,170) 23(-1237.5,170) 24(-1187.5,170) 25(-1137.5,170) 26(-1087.5,170) 27(-1037.5,170) 28(-987.5,170) 29(-937.5,170) 30(-887.5,170) 31(-837.5,170) 32(-787.5,170) 33(-637.5,170) 34(-587.5,170) 35(-537.5,170) 36(-487.5,170) 37(-437.5,170) 38(-387.5,170) 39(-337.5,170) 40(-287.5,170) 41(-237.5,170) 42(-187.5,170) 43(-137.5,170) 44(-87.5,170) 45(-37.5,170) 46(12.5,170) 47(62.5,170) 48(112.5,170) 49(162.5,170) 50(212.5,170) 51(262.5,170) 52(312.5,170) 53(362.5,170) 54(412.5,170) 55(462.5,170) 56(512.5,170) 57(562.5,170) 58(612.5,170) 59(662.5,170) 60(712.5,170) 61(762.5,170) 62(812.5,170) 63(862.5,170) 64(912.5,170) 65(962.5,170) 66(1012.5,170) 67(1062.5,170) 68(1112.5,170) 69(1162.5,170) 70(1212.5,170) 71(1262.5,170) 72(1312.5,170) 73(1362.5,170) 74(1412.5,170) 75(1462.5,170) 76(1512.5,170) 77(1562.5,170) 78(1612.5,170) 79(1662.5,170) 80(1712.5,170) 81(1762.5,170) 82(1912.5,170) 83(1962.5,170) 84(2012.5,170) 85(2062.5,170) 86(2112.5,170) 87(2162.5,170) 88(2212.5,170) 89(2262.5,170) 90(2312.5,170) 91(2362.5,170) 92(2412.5,170) 93(-2337.5,-170) 94(-2287.5,-170) 95(-2237.5,-170) 96(-2187.5,-170) 97(-2137.5,-170) 98(-2087.5,-170) 99(-2037.5,-170) 100(-1987.5,-170) 101(-1937.5,-170) 102(-1887.5,-170) 103(-1837.5,-170) 104(-1787.5,-170) 105(-1737.5,-170) 106(-1687.5,-170) 107(-1637.5,-170) 108(-1587.5,-170) 109(-1537.5,-170) 110(-1487.5,-170) 111(-1437.5,-170) 112(-1387.5,-170) 113(-1337.5,-170) 114(-1287.5,-170) 115(-1237.5,-170) 116(-1187.5,-170) 117(-1137.5,-170) 118(-1087.5,-170) 119(-1037.5,-170) 120(-987.5,-170) 121(-937.5,-170) 122(-887.5,-170) 123(-837.5,-170) 124(-787.5,-170) 125(-637.5,-170) 126(-587.5,-170) 127(-537.5,-170) 128(-487.5,-170) 129(-437.5,-170) 130(-387.5,-170) 131(-337.5,-170) 132(-287.5,-170) 133(-237.5,-170) 134(-187.5,-170) 135(-137.5,-170) 136(-87.5,-170) 137(-37.5,-170) 138(12.5,-170) 139(62.5,-170) 140(112.5,-170) 141(162.5,-170) 142(212.5,-170) 143(262.5,-170) 144(312.5,-170) 145(362.5,-170) 146(412.5,-170) 147(462.5,-170) 148(512.5,-170) 149(562.5,-170) 150(612.5,-170) 151(662.5,-170) 152(712.5,-170) 153(762.5,-170) 154(812.5,-170) 155(862.5,-170) 156(912.5,-170) 157(962.5,-170) 158(1012.5,-170) 159(1062.5,-170) 160(1112.5,-170) 161(1162.5,-170) 162(1212.5,-170) 163(1262.5,-170) 164(1312.5,-170) 165(1362.5,-170) 166(1412.5,-170) 167(1462.5,-170) 168(1512.5,-170) 169(1562.5,-170) 170(1612.5,-170) 171(1662.5,-170) 172(1712.5,-170) 173(1762.5,-170) 174(1912.5,-170) 175(1962.5,-170) 176(2012.5,-170) 177(2062.5,-170) 178(2112.5,-170) 179(2162.5,-170) 180(2212.5,-170) 181(2262.5,-170) 182(2312.5,-170) 183(2362.5,-170) 184(2412.5,-170)
  round 159.45 hole 96.06: 185(-2412.5,0) 186(-712.5,0) 187(1837.5,0)
Top Overlay:
  lines w7.87: -2519.68,-78.74 -2519.68,-175 -2403.44,-175 ; -2519.68,78.74 -2519.68,175 -2403.44,175 ; 2460.63,-175 2519.68,-175 2519.68,175 2460.63,175
  text "1" at -2347.34,237.26 h59.06
  text "93" at -2386.71,-296.32 h59.06
  text "92" at 2363.29,237.26 h59.06
  text "184" at 2353.44,-296.32 h59.06